# Altium schematic symbol library otherComponents.SchLib: 5 symbols
Pins are listed as number, name and electrical type; pins without a type are passive.

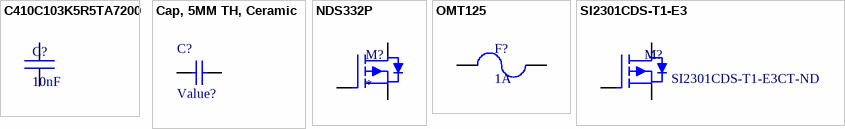
[diagram p0: symbols C410C103K5R5TA7200 to SI2301CDS-T1-E3]

## C410C103K5R5TA7200
designator C?, comment 10nF
CAP CER 10000PF 50V X7R AXIAL; Manufacturer 1: KEMET; Manufacturer Part Number 1: C410C103K5R5TA7200; Tolerance: 10%; Dissipation Factor: 2.5%; Lead Diameter: 0.51mm; Lead Length: 25.4mm; Supplier 1: Digi-Key; Stock 1: 35986; Pricing 1: 1=0.22000, 10=0.14700, 100=0.07430, 500=0.05084, 1000=0.04497, 2500=0.04301 (USD); RoHS: Yes; Mount: Through Hole; Case/Package: Axial; Min Operating Temperature: -55°C; Max Operating Temperature: 125°C; Capacitance: 10nF; Dielectric: X7R; Packaging: Tape and Reel; Package Quantity: 5000; Voltage Rating: 50V; Termination: Axial; Voltage Rating (DC): 50V; Voltage: 50V; Length: 4.32mm; Lead Free: Lead Free; ComponentLink1URL: https://datasheet.ciiva.com/146/150c20aximax-146617.pdf?src-supplier=Digi-Key; ComponentLink1Description: https://datasheet.ciiva.com/146/150c20aximax-146617.pdf?src-supplier=Digi-Key; Supplier Part Number 1: 399-4452-1-ND
footprint 10nF; pin to pad 2>1
pins: 1, 2

## Cap, 5MM TH, Ceramic
designator C?, comment Value?
Generic Cap, 5MM TH, Ceramic; TargetLibrary: RITRacing-Passives; Publisher: T.Tallo; Published: 22Oct2016; Status: Active; Value: Value?
footprint Cap, 5mm TH, Ceramic (Through Hole Cap, Ceramic)
pins: 1 Pos, 2 Neg

## NDS332P
designator M?
MOSFET P-CH 20V 1A SSOT3; Manufacturer 1: ON Semiconductor; Manufacturer Part Number 1: NDS332P; Supplier 1: Digi-Key; Stock 1: 103711; Pricing 1: 1=0.37000, 10=0.29600, 100=0.20180, 500=0.15132, 1000=0.11349 (USD); RoHS: No; ComponentLink1URL: https://datasheet.ciiva.com/931/nds332p-931840.pdf?src-supplier=Digi-Key; ComponentLink1Description: https://datasheet.ciiva.com/931/nds332p-931840.pdf?src-supplier=Digi-Key; ComponentLink2URL: https://datasheet.ciiva.com/22681/1815140-22681925.pdf?src-supplier=Element14; ComponentLink2Description: https://datasheet.ciiva.com/22681/1815140-22681925.pdf?src-supplier=Element14; ComponentLink3URL: https://datasheet.ciiva.com/19479/874752-19479886.pdf?src-supplier=Jameco; ComponentLink3Description: https://datasheet.ciiva.com/19479/874752-19479886.pdf?src-supplier=Jameco; ComponentLink4URL: https://datasheet.ciiva.com/4441/nds332p-96390-4441376.pdf?src-supplier=Mouser; ComponentLink4Description: https://datasheet.ciiva.com/4441/nds332p-96390-4441376.pdf?src-supplier=Mouser; ComponentLink5URL: https://datasheet.ciiva.com/6037/192744-6037617.pdf?src-supplier=Farnell; ComponentLink5Description: https://datasheet.ciiva.com/6037/192744-6037617.pdf?src-supplier=Farnell; ComponentLink6URL: https://datasheet.ciiva.com/22681/1815140-22681813.pdf?src-supplier=Element14; ComponentLink6Description: https://datasheet.ciiva.com/22681/1815140-22681813.pdf?src-supplier=Element14; ComponentLink7URL: https://datasheet.ciiva.com/22681/1815140-22681814.pdf?src-supplier=Element14; ComponentLink7Description: https://datasheet.ciiva.com/22681/1815140-22681814.pdf?src-supplier=Element14; ComponentLink8URL: https://datasheet.ciiva.com/22681/1815140-22681815.pdf?src-supplier=Element14; ComponentLink8Description: https://datasheet.ciiva.com/22681/1815140-22681815.pdf?src-supplier=Element14; ComponentLink9URL: https://datasheet.ciiva.com/931/nds332p-931841.pdf?src-supplier=Digi-Key; ComponentLink9Description: https://datasheet.ciiva.com/931/nds332p-931841.pdf?src-supplier=Digi-Key; ComponentLink10URL: https://datasheet.ciiva.com/6037/192744-6037734.pdf?src-supplier=Farnell; ComponentLink10Description: https://datasheet.ciiva.com/6037/192744-6037734.pdf?src-supplier=Farnell; ComponentLink11URL: https://datasheet.ciiva.com/16772/nds332p-16772443.pdf?src-supplier=Future+Electronics; ComponentLink11Description: https://datasheet.ciiva.com/16772/nds332p-16772443.pdf?src-supplier=Future+Electronics; ComponentLink12URL: https://datasheet.ciiva.com/8114/nds332p-8114766.pdf?src-supplier=Avnet; ComponentLink12Description: https://datasheet.ciiva.com/8114/nds332p-8114766.pdf?src-supplier=Avnet; Supplier Part Number 1: NDS332PCT-ND
footprint SOT23_527AG_ONS
pins: 1, 2, 3

## OMT125
designator F?, comment 1A
SCHURTER   3404.0114.11   FUSE, 1A, 125VDC, SMT; Body Material: Thermoplastic; Voltage Rating: 125V; Power Dissipation: 88mW; Fuse Type: Board Mount (Cartridge Style Excluded); Fuse Size: 7.4 X 3.1mm; Blow Characteristic: TIME DELAY; Approvals: cURus,cULus,UL; Supplier 1: Digi-Key; Manufacturer 1: Schurter; Manufacturer Part Number 1: 3404.0114.11; RoHS: Yes; Category: Fuses; Stock 1: 1439; Pricing 1: 1=0.67000, 50=0.56400, 100=0.43100, 500=0.42300, 1000=0.38171 (USD); Mount: Surface Mount,PCB; Case/Package: SMD/SMT; Number of Pins: 2; Contact Material: Copper Alloy; Contact Plating: Tin; Housing Material: Thermoplastic; Terminal Material: Tin; Min Operating Temperature: -55°C; Max Operating Temperature: 85°C; Current Rating: 1A; Package Quantity: 100; Voltage Rating (AC): 125V; Voltage Rating (DC): 125V; Packaging: Bag; Max Voltage Rating (DC): 125V; Max Voltage Rating (AC): 125V; Current: 1A; Termination: SMD/SMT; Fuse Current: 1A; Series: OMT 125; Length: 7.4mm; Width: 0.122inch; Height: 0.102inch; Depth: 3.1mm; Radiation Hardening: No; REACH SVHC: No SVHC; Flammability Rating: UL94 V-0; RoHS Compliant: Yes; ComponentLink1URL: https://datasheet.ciiva.com/4486/typ-omt-125-14932-4486467.pdf?src-supplier=Mouser; ComponentLink1Description: https://datasheet.ciiva.com/4486/typ-omt-125-14932-4486467.pdf?src-supplier=Mouser; ComponentLink2URL: https://datasheet.ciiva.com/26876/getdatasheetpartid-627585-26876503.pdf?src-supplier=Verical; ComponentLink2Description: https://datasheet.ciiva.com/26876/getdatasheetpartid-627585-26876503.pdf?src-supplier=Verical; ComponentLink3URL: https://datasheet.ciiva.com/17402/typ-omt-125-17402981.pdf?src-supplier=Avnet+Europe; ComponentLink3Description: https://datasheet.ciiva.com/17402/typ-omt-125-17402981.pdf?src-supplier=Avnet+Europe; ComponentLink4URL: https://datasheet.ciiva.com/1549/typ-omt-125-1549883.pdf?src-supplier=Element14; ComponentLink4Description: https://datasheet.ciiva.com/1549/typ-omt-125-1549883.pdf?src-supplier=Element14; ComponentLink5URL: https://datasheet.ciiva.com/8264/typ-omt-125-8264396.pdf?src-supplier=Avnet; ComponentLink5Description: https://datasheet.ciiva.com/8264/typ-omt-125-8264396.pdf?src-supplier=Avnet
footprint OMT125 (Chip Resistor, 2-Leads, Body 3.20x1.60mm, IPC Medium Density)
pins: 1, 2

## SI2301CDS-T1-E3
designator M?  Supplier Part Number 1: SI2301CDS-T1-E3CT-ND  (hidden comment: SI2301CDS-T1-E3)
Trans Mosfet P-ch 20V 3.1A 3-PIN SOT-23 T/r / Mosfet P-ch 20V 3.1A SOT23-3; Manufacturer 1: Vishay Siliconix; Rds On Max: 112mR; Input Capacitance: 405pF; Rise Time: 35ns; Max Power Dissipation: 1.6W; Gate to Source Voltage (Vgs): 8V; Turn-Off Delay Time: 30ns; Threshold Voltage: -400mV; Turn-On Delay Time: 11ns; Element Configuration: Single; Drain to Source Breakdown Voltage: -20V; Number of Channels: 1; Polarity: P-CHANNEL; Supplier 1: Digi-Key; Manufacturer Part Number 1: SI2301CDS-T1-E3; RoHS: Yes; Category: MOSFETs; Stock 1: 82098; Pricing 1: 1=0.51000, 10=0.38800, 100=0.24160, 500=0.16530, 1000=0.12716 (USD); Mount: Surface Mount; Case/Package: SOT-23-3; Number of Pins: 3; Weight: 0.050717oz; Min Operating Temperature: -55°C; Max Operating Temperature: 150°C; Package Quantity: 1; Packaging: Tape and Reel; Drain to Source Voltage (Vdss): 20V; Continuous Drain Current (ID): 3.1A; Drain to Source Resistance: 112mR; Fall Time: 35ns; Series: TrenchFET®; Length: 3.04mm; Width: 1.4mm; Height: 1.02mm; Radiation Hardening: No; REACH SVHC: Unknown; Lead Free: Lead Free; RoHS Compliant: Yes; ComponentLink1URL: https://datasheet.ciiva.com/4442/si2301cd-244544-4442236.pdf?src-supplier=Mouser; ComponentLink1Description: https://datasheet.ciiva.com/4442/si2301cd-244544-4442236.pdf?src-supplier=Mouser; ComponentLink2URL: https://datasheet.ciiva.com/22652/1719653-22652314.pdf?src-supplier=Element14; ComponentLink2Description: https://datasheet.ciiva.com/22652/1719653-22652314.pdf?src-supplier=Element14; ComponentLink3URL: https://datasheet.ciiva.com/2957/si2301cd-2957335.pdf?src-supplier=Digi-Key; ComponentLink3Description: https://datasheet.ciiva.com/2957/si2301cd-2957335.pdf?src-supplier=Digi-Key; ComponentLink4URL: https://datasheet.ciiva.com/2957/si2301cd-2957336.pdf?src-supplier=Digi-Key; ComponentLink4Description: https://datasheet.ciiva.com/2957/si2301cd-2957336.pdf?src-supplier=Digi-Key; ComponentLink5URL: https://datasheet.ciiva.com/11160/si2301cd-11160982.pdf?src-supplier=Avnet; ComponentLink5Description: https://datasheet.ciiva.com/11160/si2301cd-11160982.pdf?src-supplier=Avnet; ComponentLink6URL: https://datasheet.ciiva.com/26137/si2301cd-26137818.pdf?src-supplier=Avnet+Europe; ComponentLink6Description: https://datasheet.ciiva.com/26137/si2301cd-26137818.pdf?src-supplier=Avnet+Europe
footprint SOT23_527AG_ONS
pins: 1, 2, 3